# EAGLE library part ATMEGA16U2 (library Cominer-Microcontroller)
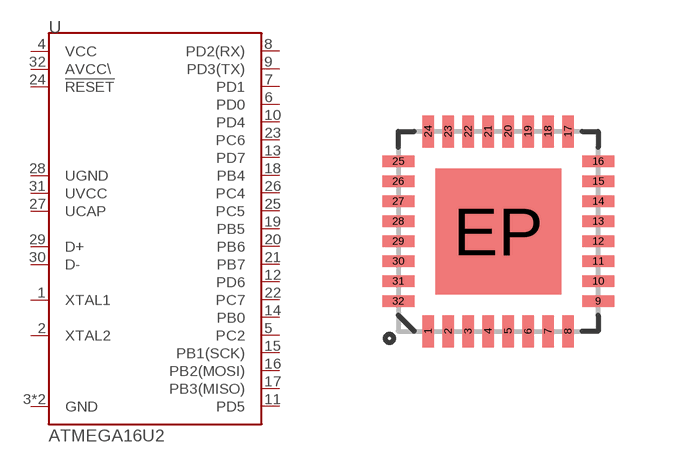
[diagram p0: symbol with the pads of QFN32; footprint QFN32]

Designator prefix U

## ATMEGA16U2  [QFN32]
1  XTAL1
2  XTAL2
3  GND
4  VCC
5  PC2
6  PD0
7  PD1
8  PD2(RX)
9  PD3(TX)
10  PD4
11  PD5
12  PD6
13  PD7
14  PB0
15  PB1(SCK)
16  PB2(MOSI)
17  PB3(MISO)
18  PB4
19  PB5
20  PB6
21  PB7
22  PC7
23  PC6
24  !RESET
25  PC5
26  PC4
27  UCAP
28  UGND
29  D+
30  D-
31  UVCC
32  AVCC\
EP  GND

## Footprint QFN32 (pad centres in mm)
smd 0.285 x 0.8: 1 -1.04,-2.5; 2 -0.54,-2.5; 3 -0.04,-2.5; 4 0.46,-2.5; 5 0.96,-2.5; 6 1.46,-2.5; 7 1.96,-2.5; 8 2.46,-2.5; 17 2.46,2.5; 18 1.96,2.5; 19 1.46,2.5; 20 0.96,2.5; 21 0.46,2.5; 22 -0.04,2.5; 23 -0.54,2.5; 24 -1.04,2.5
smd 0.8 x 0.285: 9 3.21,-1.75; 10 3.21,-1.25; 11 3.21,-0.75; 12 3.21,-0.25; 13 3.21,0.25; 14 3.21,0.75; 15 3.21,1.25; 16 3.21,1.75; 25 -1.79,1.75; 26 -1.79,1.25; 27 -1.79,0.75; 28 -1.79,0.25; 29 -1.79,-0.25; 30 -1.79,-0.75; 31 -1.79,-1.25; 32 -1.79,-1.75
smd 3.15 x 3.15: EP 0.71,0